# Altium integrated library Zarlink Comm Central Office PBX Interface.IntLib: 1 symbol
Pins are listed as number, name and electrical type; pins without a type are passive.

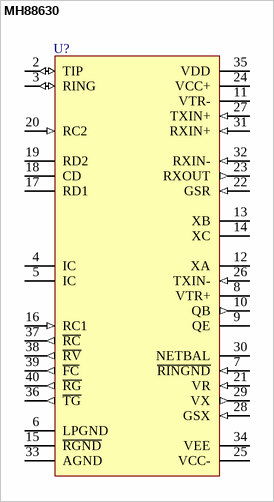
[diagram p0: symbol MH88630]

## MH88630
designator U?
Central Office Interface (LS/GS); Note: Pin 1 is cut short and should be left unconnected;  leave pins 4 and 5 open.; Published: 8-Jun-2000; LatestRevisionDate: 17-Jul-2002; LatestRevisionNote: Re-released for DXP Platform.; DatasheetVersion: Issue 7 April 1995; PackageReference: DIL40A; Publisher: Altium Limited; PackageDescription: DIP; 40 Leads (1 Absent); Row Spacing 51.269 mm; Pitch 2.54 mm; ComponentLink1Description: Manufacturer Link; ComponentLink1URL: http://www.zarlink.com/
footprint DIL40A (DIP; 40 Leads (1 Absent); Row Spacing 51.269 mm; Pitch 2.54 mm)
pins: 2 TIP (io), 3 RING (io), 4 IC, 5 IC, 6 LPGND (power), 7 ~{RINGND} (in), 8 VTR+, 9 QE, 10 QB (out), 11 VTR-, 12 XA, 13 XB, 14 XC, 15 ~{RGND} (power), 16 RC1 (in), 17 RD1 (oc), 18 CD, 19 RD2 (oc), 20 RC2 (in), 21 VR (in), 22 GSR (in), 23 RXOUT (out), 24 VCC+ (power), 25 VCC- (power), 26 TXIN- (in), 27 TXIN+ (in), 28 GSX (in), 29 VX (out), 30 NETBAL, 31 RXIN+ (in), 32 RXIN- (in), 33 AGND (power), 34 VEE (power), 35 VDD (power), 36 ~{TG} (out), 37 ~{RC} (out), 38 ~{RV} (out), 39 ~{FC} (out), 40 ~{RG} (out)